# Altium footprint library kwarc.PcbLib: 1 footprints
Each footprint in its own frame and in the unit in brackets; x right, y up, seen from the top. Pads: shape width x height; smd on the part's side, far side on the other; paste and mask are expansions set on the pad; w line width, h text height; cw(c..) or ccw(c..) is an arc to the next point about the centre after c.
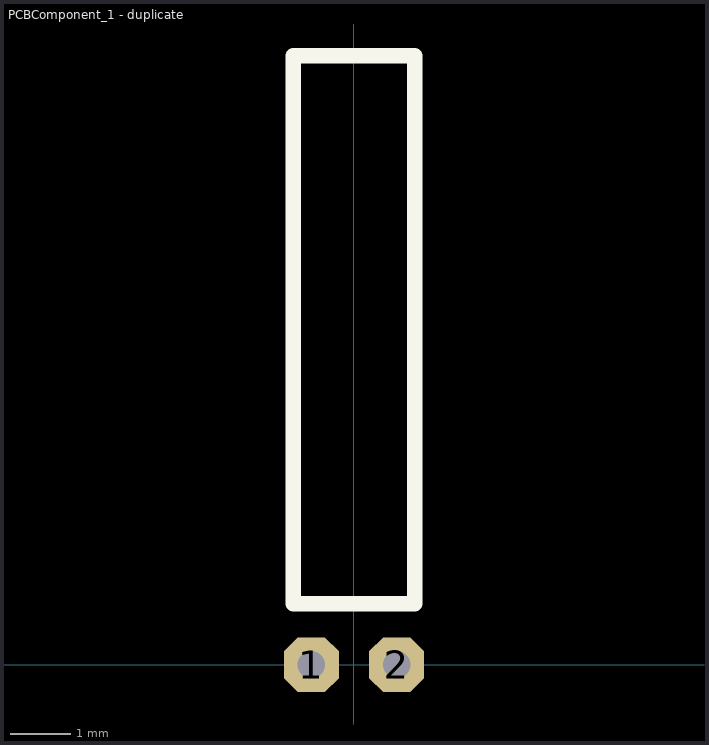
[diagram p0: the footprint, top view; thin cyan lines are the x and y axes]

## PCBComponent_1 - duplicate [mm]
pads (2):
  oct 0.9x0.9 hole 0.45: 1(-0.7,0) 2(0.7,0)
Top Overlay:
  lines w0.254: -1,1 -1,10 1,10 1,1 -1,1